# Altium footprint library LNK304.PcbLib: 1 footprints
Each footprint in its own frame and in the unit in brackets; x right, y up, seen from the top. Pads: shape width x height; smd on the part's side, far side on the other; paste and mask are expansions set on the pad; w line width, h text height; cw(c..) or ccw(c..) is an arc to the next point about the centre after c.
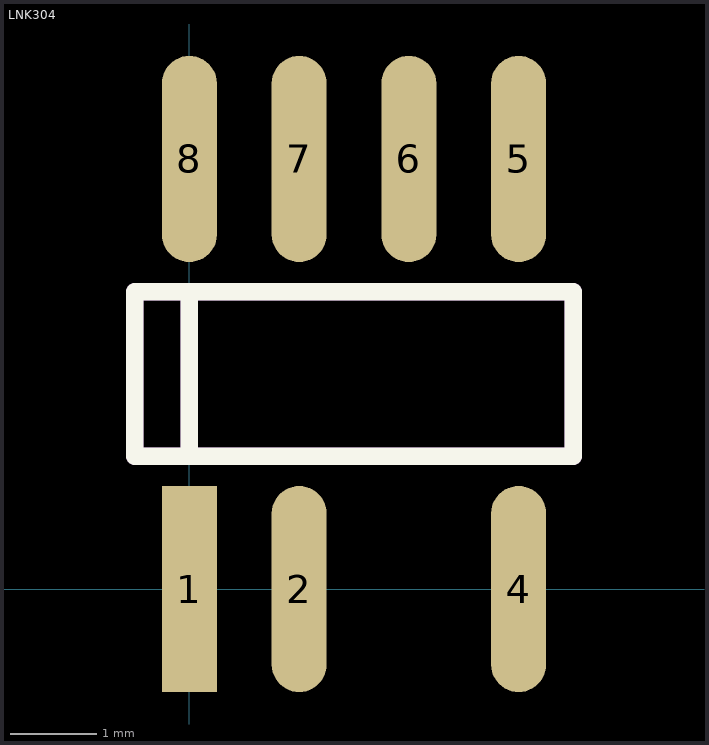
[diagram p0: the footprint, top view; thin cyan lines are the x and y axes]

## LNK304 [mil]
height 3
pads (7):
  rect 25x94 smd: 1(0,0)
  oval 25x94 smd: 2(50,0) 4(150,0) 5(150,196) 6(100,196) 7(50,196) 8(0,196)
Top Overlay:
  lines w8: 0,60.5 0,135.5 ; -25,60.5 175,60.5 175,135.5 -25,135.5 -25,60.5
Mechanical 1:
  lines w8: 0,60.5 0,135.5 ; -25,60.5 175,60.5 175,135.5 -25,135.5 -25,60.5
3D body: height 68.9, standoff 0.01, extent -23.62,-20.14 173.23,216.54